# Altium footprint library Connector_Audio.PcbLib: 212 footprints (part 11 of 14)
Each footprint in its own frame and in the unit in brackets; x right, y up, seen from the top. Pads: shape width x height; smd on the part's side, far side on the other; paste and mask are expansions set on the pad; w line width, h text height; cw(c..) or ccw(c..) is an arc to the next point about the centre after c.
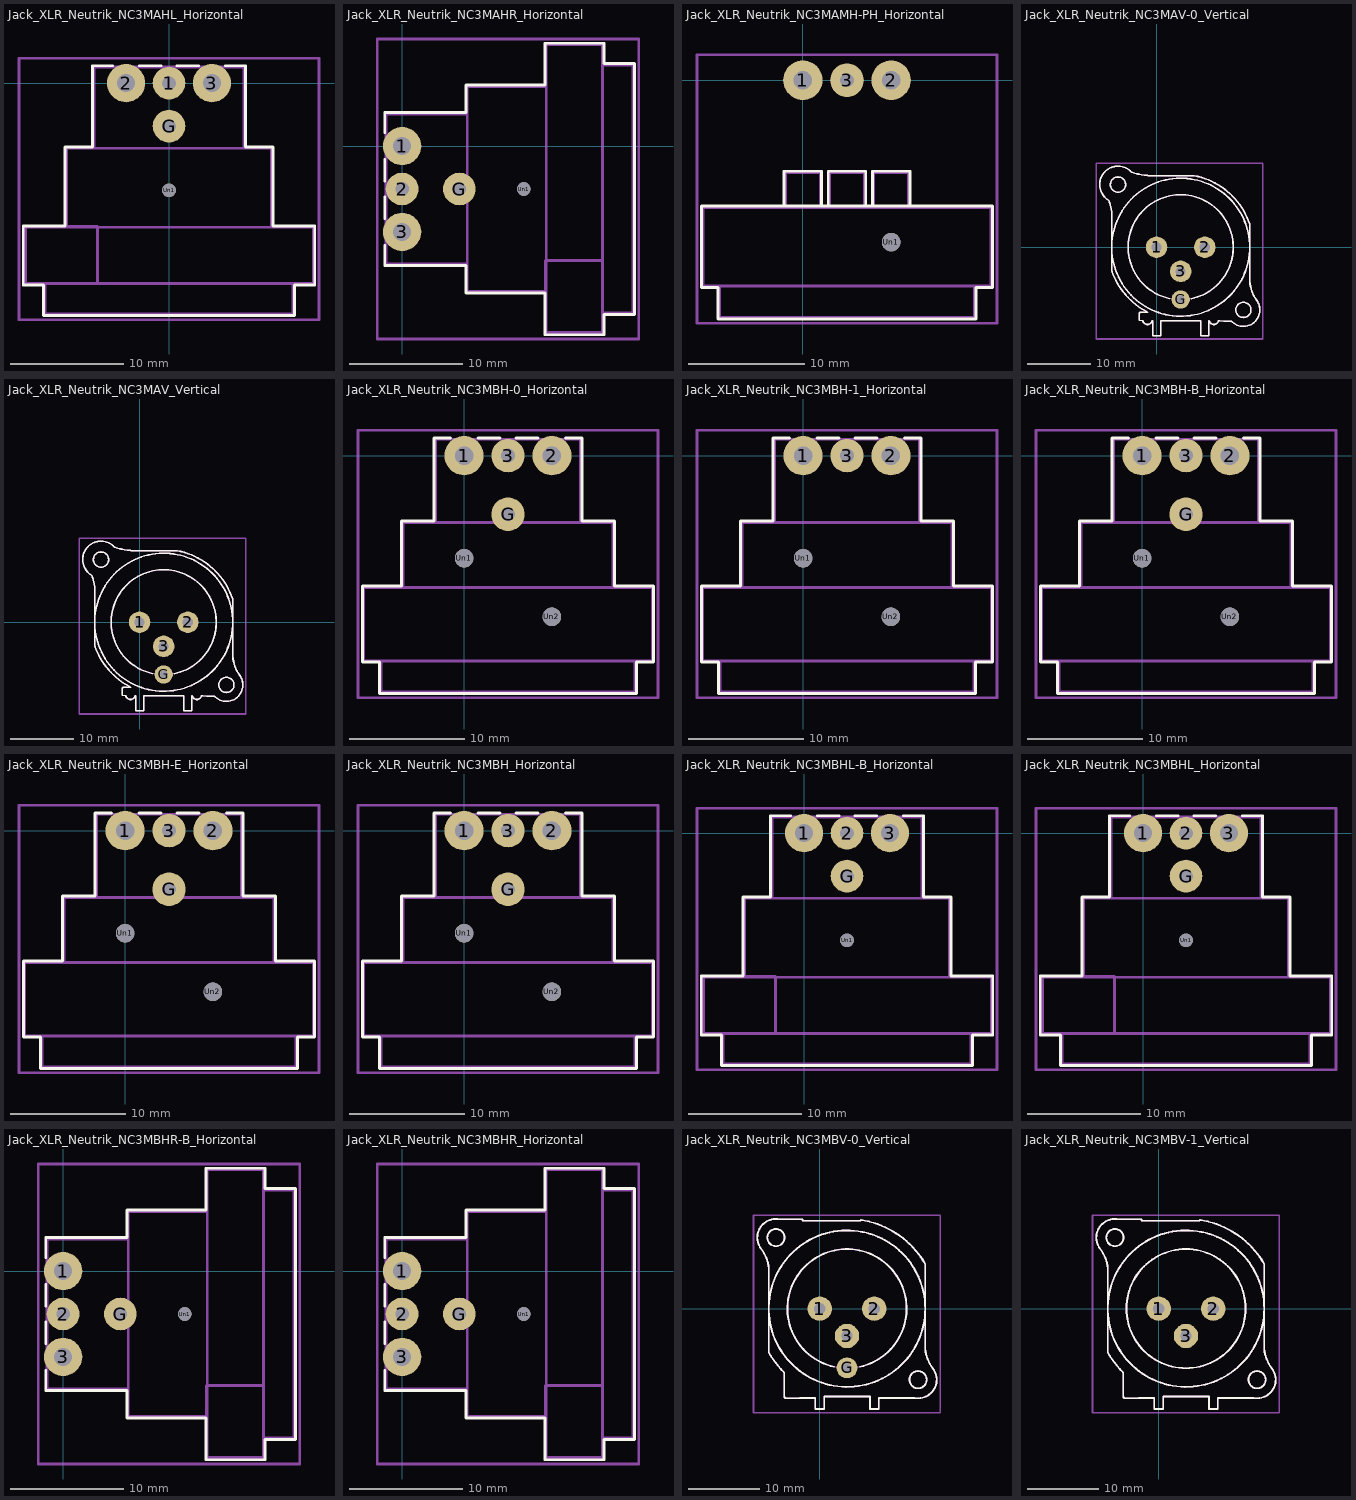
[diagram p10: the footprints below, top view; thin cyan lines are the x and y axes]

## Jack_XLR_Neutrik_NC3MAHL_Horizontal [mm]
pads (5):
  round 2.9 hole 1.2: 1(0,0) G(0,-3.81)
  round 3.4 hole 1.6: 2(-3.81,0) 3(3.81,0)
  round 1.2 hole 1.2: Un1(0,-9.52)
F.SilkS:
  lines w0.254: -5,1.54 -6.77,1.54 -6.77,-5.66 -9.22,-5.66 -9.22,-12.66 -12.92,-12.66 -12.92,-17.9 -11.12,-17.9 -11.12,-20.6 11.12,-20.6 11.12,-17.9 12.92,-17.9 12.92,-12.66 9.22,-12.66 9.22,-5.66 6.77,-5.66 6.77,1.54 5,1.54 ; -2.6,1.54 -0.7,1.54 -2.6,1.54 ; 0.7,1.54 2.6,1.54 0.7,1.54
Top Assembly:
  lines w0.254: -11,-17.78 -11,-20.48 11,-20.48 11,-17.78 ; -9.1,-12.78 -9.1,-5.78 9.1,-5.78 9.1,-12.78 ; -6.65,-5.78 -6.65,1.42 6.65,1.42 6.65,-5.78 ; -12.8,-17.78 12.8,-17.78 12.8,-12.78 -12.8,-12.78 -12.8,-17.78
  text "'.Designator'" at -4.047,-16.27 h1
Top Courtyard:
  lines w0.254: -13.3,-20.98 13.3,-20.98 13.3,2.2 -13.3,2.2 -13.3,-20.98
Top Designator:
  text ".Designator" at -7.618,-9.898 h1.52
Board Shape:
  lines w0.254: -12.8,-17.78 12.8,-17.78 ; -12.7,-17.78 -12.7,-12.7 -6.35,-12.7 -6.35,-17.78

## Jack_XLR_Neutrik_NC3MAHR_Horizontal [mm]
pads (5):
  round 3.4 hole 1.6: 1(0,0) 3(0,-7.62)
  round 2.9 hole 1.2: 2(0,-3.81) G(5.08,-3.81)
  round 1.2 hole 1.2: Un1(10.78,-3.81)
F.SilkS:
  lines w0.254: -1.54,-8.81 -1.54,-10.58 5.66,-10.58 5.66,-13.03 12.66,-13.03 12.66,-16.73 17.9,-16.73 17.9,-14.93 20.6,-14.93 20.6,7.31 17.9,7.31 17.9,9.11 12.66,9.11 12.66,5.41 5.66,5.41 5.66,2.96 -1.54,2.96 -1.54,1.19 ; -1.54,-6.41 -1.54,-4.51 ; -1.54,-3.11 -1.54,-1.21
Top Assembly:
  lines w0.254: 5.78,-10.46 -1.42,-10.46 -1.42,2.84 5.78,2.84 ; 12.78,-12.91 5.78,-12.91 5.78,5.29 12.78,5.29 ; 17.78,-14.81 20.48,-14.81 20.48,7.19 17.78,7.19 ; 12.78,-16.61 17.78,-16.61 17.78,8.99 12.78,8.99 12.78,-16.61
  text "'.Designator'" at 11.383,-4.65 h1
Top Courtyard:
  lines w0.254: -2.2,-17.11 20.98,-17.11 20.98,9.49 -2.2,9.49 -2.2,-17.11
Top Designator:
  text ".Designator" at 1.772,-4.318 h1.52
Board Shape:
  lines w0.254: 17.78,-16.61 17.78,8.99 ; 17.78,-16.51 12.7,-16.51 12.7,-10.16 17.78,-10.16

## Jack_XLR_Neutrik_NC3MAMH-PH_Horizontal [mm]
pads (4):
  round 3.4 hole 1.6: 1(0,0) 2(7.62,0)
  round 2.9 hole 1.2: 3(3.81,0)
  round 1.6 hole 1.6: Un1(7.62,-13.97)
F.SilkS:
  lines w0.254: -1.62,-10.86 -1.62,-7.86 1.62,-7.86 1.62,-10.86 ; 2.19,-10.86 2.19,-7.86 5.43,-7.86 5.43,-10.86 ; 6,-10.86 6,-7.86 9.24,-7.86 9.24,-10.86 ; -8.76,-17.9 -7.31,-17.9 -7.31,-20.6 14.93,-20.6 14.93,-17.9 16.38,-17.9 16.38,-10.86 -8.76,-10.86 -8.76,-17.9
Top Assembly:
  lines w0.254: -7.19,-17.78 -7.19,-20.48 14.81,-20.48 14.81,-17.78 ; -1.5,-10.98 -1.5,-7.98 1.5,-7.98 1.5,-10.98 ; 2.31,-10.98 2.31,-7.98 5.31,-7.98 5.31,-10.98 ; 6.12,-10.98 6.12,-7.98 9.12,-7.98 9.12,-10.98 ; -8.64,-17.78 16.26,-17.78 16.26,-10.98 -8.64,-10.98 -8.64,-17.78
  text "'.Designator'" at -0.237,-15.22 h1
Top Courtyard:
  lines w0.254: -9.14,-20.98 16.76,-20.98 16.76,2.2 -9.14,2.2 -9.14,-20.98
Top Designator:
  text ".Designator" at -3.808,-9.898 h1.52
Dwgs.User:
  lines w0.254: -8.64,-17.78 16.26,-17.78

## Jack_XLR_Neutrik_NC3MAV-0_Vertical [mm]
pads (4):
  round 3.4 hole 1.6: 1(0,0) 2(7.62,0) 3(3.81,-3.81)
  round 2.9 hole 1.2: G(3.81,-8.25)
F.SilkS:
  circle w0.254: c13.71,-9.9 r1.2
  circle w0.254: c3.81,0 r10.9
  circle w0.254: c-6.09,9.9 r1.2
  lines w0.254: -7.593,7.417 cw(c-6.09,9.9) -3.94,11.85 ccw(c-0.53,22.1) -0.36,11.3 5.95,11.3 ; -7.586,7.413 cw(c-12.1,5.24) -7.09,5.24 -7.09,-3.67 ccw(c3.81,0) -1.41,-10.248 ; -1.41,-10.25 -2.44,-10.25 ccw(c-2.44,-10.55) -2.74,-10.55 -2.74,-11.53 -2.18,-11.6 ccw(c-1.44,-11.46) -0.7,-11.6 -0.63,-11.6 -0.63,-14 0.63,-14 0.63,-11.6 3.76,-11.6 5,-11.64 7,-11.64 7,-14 8.24,-14 8.24,-11.64 8.33,-11.64 ccw(c9.06,-11.46) 9.79,-11.641 ; 2.1,-8.12 cw(c3.81,0) 5.508,-8.123 ; 5.963,11.298 cw(c3.81,0) 14.71,3.67 14.71,-4.95 ccw(c20.56,-4.95) 15.815,-8.372 ; 9.79,-11.64 9.96,-11.64 10.66,-11.67 11.8,-11.67 ccw(c13.71,-9.9) 15.819,-8.372
Top Assembly:
  circle w0.254: c13.71,-9.9 r1.2
  circle w0.254: c3.81,0 r10.9
  circle w0.254: c3.81,0 r8.3
  circle w0.254: c-6.09,9.9 r1.2
  lines w0.254: -7.593,7.417 cw(c-6.09,9.9) -3.94,11.85 ccw(c-0.53,22.1) -0.36,11.3 5.95,11.3 ; -7.586,7.413 cw(c-12.1,5.24) -7.09,5.24 -7.09,-3.67 ccw(c3.81,0) -1.41,-10.248 ; -1.41,-10.25 -2.44,-10.25 ccw(c-2.44,-10.55) -2.74,-10.55 -2.74,-11.53 -2.18,-11.6 ccw(c-1.44,-11.46) -0.7,-11.6 -0.63,-11.6 -0.63,-14 0.63,-14 0.63,-11.6 3.76,-11.6 5,-11.64 7,-11.64 7,-14 8.24,-14 8.24,-11.64 8.33,-11.64 ccw(c9.06,-11.46) 9.79,-11.641 ; 5.963,11.298 cw(c3.81,0) 14.71,3.67 14.71,-4.95 ccw(c20.56,-4.95) 15.815,-8.372 ; 9.79,-11.64 9.96,-11.64 10.66,-11.67 11.8,-11.67 ccw(c13.71,-9.9) 15.819,-8.372
  text "'.Designator'" at -0.237,0.16 h1
Top Courtyard:
  lines w0.254: -9.5,-14.5 16.8,-14.5 16.8,13.3 -9.5,13.3 -9.5,-14.5
Top Designator:
  text ".Designator" at -3.968,-1.108 h1.52

## Jack_XLR_Neutrik_NC3MAV_Vertical [mm]
pads (4):
  round 3.4 hole 1.6: 1(0,0) 2(7.62,0) 3(3.81,-3.81)
  round 2.9 hole 1.2: G(3.81,-8.25)
F.SilkS:
  circle w0.254: c13.71,-9.9 r1.2
  circle w0.254: c3.81,0 r10.9
  circle w0.254: c-6.09,9.9 r1.2
  lines w0.254: -7.593,7.417 cw(c-6.09,9.9) -3.94,11.85 ccw(c-0.53,22.1) -0.36,11.3 5.95,11.3 ; -7.586,7.413 cw(c-12.1,5.24) -7.09,5.24 -7.09,-3.67 ccw(c3.81,0) -1.41,-10.248 ; -1.41,-10.25 -2.44,-10.25 ccw(c-2.44,-10.55) -2.74,-10.55 -2.74,-11.53 -2.18,-11.6 ccw(c-1.44,-11.46) -0.7,-11.6 -0.63,-11.6 -0.63,-14 0.63,-14 0.63,-11.6 3.76,-11.6 5,-11.64 7,-11.64 7,-14 8.24,-14 8.24,-11.64 8.33,-11.64 ccw(c9.06,-11.46) 9.79,-11.641 ; 2.1,-8.12 cw(c3.81,0) 5.508,-8.123 ; 5.963,11.298 cw(c3.81,0) 14.71,3.67 14.71,-4.95 ccw(c20.56,-4.95) 15.815,-8.372 ; 9.79,-11.64 9.96,-11.64 10.66,-11.67 11.8,-11.67 ccw(c13.71,-9.9) 15.819,-8.372
Top Assembly:
  circle w0.254: c13.71,-9.9 r1.2
  circle w0.254: c3.81,0 r10.9
  circle w0.254: c3.81,0 r8.3
  circle w0.254: c-6.09,9.9 r1.2
  lines w0.254: -7.593,7.417 cw(c-6.09,9.9) -3.94,11.85 ccw(c-0.53,22.1) -0.36,11.3 5.95,11.3 ; -7.586,7.413 cw(c-12.1,5.24) -7.09,5.24 -7.09,-3.67 ccw(c3.81,0) -1.41,-10.248 ; -1.41,-10.25 -2.44,-10.25 ccw(c-2.44,-10.55) -2.74,-10.55 -2.74,-11.53 -2.18,-11.6 ccw(c-1.44,-11.46) -0.7,-11.6 -0.63,-11.6 -0.63,-14 0.63,-14 0.63,-11.6 3.76,-11.6 5,-11.64 7,-11.64 7,-14 8.24,-14 8.24,-11.64 8.33,-11.64 ccw(c9.06,-11.46) 9.79,-11.641 ; 5.963,11.298 cw(c3.81,0) 14.71,3.67 14.71,-4.95 ccw(c20.56,-4.95) 15.815,-8.372 ; 9.79,-11.64 9.96,-11.64 10.66,-11.67 11.8,-11.67 ccw(c13.71,-9.9) 15.819,-8.372
  text "'.Designator'" at -0.237,0.16 h1
Top Courtyard:
  lines w0.254: -9.5,-14.5 16.8,-14.5 16.8,13.3 -9.5,13.3 -9.5,-14.5
Top Designator:
  text ".Designator" at -3.968,-1.108 h1.52

## Jack_XLR_Neutrik_NC3MBH-0_Horizontal [mm]
pads (6):
  round 3.4 hole 1.6: 1(0,0) 2(7.62,0)
  round 2.9 hole 1.2: 3(3.81,0) G(3.81,-5.08)
  round 1.6 hole 1.6: Un1(0,-8.89) Un2(7.62,-13.97)
F.SilkS:
  lines w0.254: -1.19,1.54 -2.61,1.54 -2.61,-5.66 -5.41,-5.66 -5.41,-11.31 -8.81,-11.31 -8.81,-17.9 -7.31,-17.9 -7.31,-20.6 14.93,-20.6 14.93,-17.9 16.43,-17.9 16.43,-11.31 13.03,-11.31 13.03,-5.66 10.23,-5.66 10.23,1.54 8.81,1.54 ; 1.21,1.54 3.11,1.54 ; 4.51,1.54 6.41,1.54
Top Assembly:
  lines w0.254: -7.19,-17.78 -7.19,-20.48 14.81,-20.48 14.81,-17.78 ; -5.29,-11.43 -5.29,-5.78 12.91,-5.78 12.91,-11.43 ; -2.49,-5.78 -2.49,1.42 10.11,1.42 10.11,-5.78 ; -8.69,-17.78 16.31,-17.78 16.31,-11.43 -8.69,-11.43 -8.69,-17.78
  text "'.Designator'" at -0.237,-16.27 h1
Top Courtyard:
  lines w0.254: -9.19,-20.98 16.81,-20.98 16.81,2.2 -9.19,2.2 -9.19,-20.98
Top Designator:
  text ".Designator" at -3.808,-9.898 h1.52
Dwgs.User:
  lines w0.254: -8.69,-17.78 16.31,-17.78

## Jack_XLR_Neutrik_NC3MBH-1_Horizontal [mm]
pads (5):
  round 3.4 hole 1.6: 1(0,0) 2(7.62,0)
  round 2.9 hole 1.2: 3(3.81,0)
  round 1.6 hole 1.6: Un1(0,-8.89) Un2(7.62,-13.97)
F.SilkS:
  lines w0.254: -1.19,1.54 -2.61,1.54 -2.61,-5.66 -5.41,-5.66 -5.41,-11.31 -8.81,-11.31 -8.81,-17.9 -7.31,-17.9 -7.31,-20.6 14.93,-20.6 14.93,-17.9 16.43,-17.9 16.43,-11.31 13.03,-11.31 13.03,-5.66 10.23,-5.66 10.23,1.54 8.81,1.54 ; 1.21,1.54 3.11,1.54 ; 4.51,1.54 6.41,1.54
Top Assembly:
  lines w0.254: -7.19,-17.78 -7.19,-20.48 14.81,-20.48 14.81,-17.78 ; -5.29,-11.43 -5.29,-5.78 12.91,-5.78 12.91,-11.43 ; -2.49,-5.78 -2.49,1.42 10.11,1.42 10.11,-5.78 ; -8.69,-17.78 16.31,-17.78 16.31,-11.43 -8.69,-11.43 -8.69,-17.78
  text "'.Designator'" at -0.237,-16.27 h1
Top Courtyard:
  lines w0.254: -9.19,-20.98 16.81,-20.98 16.81,2.2 -9.19,2.2 -9.19,-20.98
Top Designator:
  text ".Designator" at -3.808,-9.898 h1.52
Dwgs.User:
  lines w0.254: -8.69,-17.78 16.31,-17.78

## Jack_XLR_Neutrik_NC3MBH-B_Horizontal [mm]
pads (6):
  round 3.4 hole 1.6: 1(0,0) 2(7.62,0)
  round 2.9 hole 1.2: 3(3.81,0) G(3.81,-5.08)
  round 1.6 hole 1.6: Un1(0,-8.89) Un2(7.62,-13.97)
F.SilkS:
  lines w0.254: -1.19,1.54 -2.61,1.54 -2.61,-5.66 -5.41,-5.66 -5.41,-11.31 -8.81,-11.31 -8.81,-17.9 -7.31,-17.9 -7.31,-20.6 14.93,-20.6 14.93,-17.9 16.43,-17.9 16.43,-11.31 13.03,-11.31 13.03,-5.66 10.23,-5.66 10.23,1.54 8.81,1.54 ; 1.21,1.54 3.11,1.54 ; 4.51,1.54 6.41,1.54
Top Assembly:
  lines w0.254: -7.19,-17.78 -7.19,-20.48 14.81,-20.48 14.81,-17.78 ; -5.29,-11.43 -5.29,-5.78 12.91,-5.78 12.91,-11.43 ; -2.49,-5.78 -2.49,1.42 10.11,1.42 10.11,-5.78 ; -8.69,-17.78 16.31,-17.78 16.31,-11.43 -8.69,-11.43 -8.69,-17.78
  text "'.Designator'" at -0.237,-16.27 h1
Top Courtyard:
  lines w0.254: -9.19,-20.98 16.81,-20.98 16.81,2.2 -9.19,2.2 -9.19,-20.98
Top Designator:
  text ".Designator" at -3.808,-9.898 h1.52
Dwgs.User:
  lines w0.254: -8.69,-17.78 16.31,-17.78

## Jack_XLR_Neutrik_NC3MBH-E_Horizontal [mm]
pads (6):
  round 3.4 hole 1.6: 1(0,0) 2(7.62,0)
  round 2.9 hole 1.2: 3(3.81,0) G(3.81,-5.08)
  round 1.6 hole 1.6: Un1(0,-8.89) Un2(7.62,-13.97)
F.SilkS:
  lines w0.254: -1.19,1.54 -2.61,1.54 -2.61,-5.66 -5.41,-5.66 -5.41,-11.31 -8.81,-11.31 -8.81,-17.9 -7.31,-17.9 -7.31,-20.6 14.93,-20.6 14.93,-17.9 16.43,-17.9 16.43,-11.31 13.03,-11.31 13.03,-5.66 10.23,-5.66 10.23,1.54 8.81,1.54 ; 1.21,1.54 3.11,1.54 ; 4.51,1.54 6.41,1.54
Top Assembly:
  lines w0.254: -8.69,-11.43 16.31,-11.43 16.31,-17.78 -8.69,-17.78 -8.69,-11.4 ; -7.19,-17.78 -7.19,-20.48 14.81,-20.48 14.81,-17.78 ; -5.29,-11.43 -5.29,-5.78 12.91,-5.78 12.91,-11.43 ; -2.49,-5.78 -2.49,1.42 10.11,1.42 10.11,-5.78
  text "'.Designator'" at -0.237,-16.27 h1
Top Courtyard:
  lines w0.254: -9.19,-20.98 16.81,-20.98 16.81,2.2 -9.19,2.2 -9.19,-20.98
Top Designator:
  text ".Designator" at -3.808,-9.898 h1.52
Dwgs.User:
  lines w0.254: -8.69,-17.78 16.31,-17.78

## Jack_XLR_Neutrik_NC3MBH_Horizontal [mm]
pads (6):
  round 3.4 hole 1.6: 1(0,0) 2(7.62,0)
  round 2.9 hole 1.2: 3(3.81,0) G(3.81,-5.08)
  round 1.6 hole 1.6: Un1(0,-8.89) Un2(7.62,-13.97)
F.SilkS:
  lines w0.254: -1.19,1.54 -2.61,1.54 -2.61,-5.66 -5.41,-5.66 -5.41,-11.31 -8.81,-11.31 -8.81,-17.9 -7.31,-17.9 -7.31,-20.6 14.93,-20.6 14.93,-17.9 16.43,-17.9 16.43,-11.31 13.03,-11.31 13.03,-5.66 10.23,-5.66 10.23,1.54 8.81,1.54 ; 1.21,1.54 3.11,1.54 ; 4.51,1.54 6.41,1.54
Top Assembly:
  lines w0.254: -7.19,-17.78 -7.19,-20.48 14.81,-20.48 14.81,-17.78 ; -5.29,-11.43 -5.29,-5.78 12.91,-5.78 12.91,-11.43 ; -2.49,-5.78 -2.49,1.42 10.11,1.42 10.11,-5.78 ; -8.69,-17.78 16.31,-17.78 16.31,-11.43 -8.69,-11.43 -8.69,-17.78
  text "'.Designator'" at -0.237,-16.27 h1
Top Courtyard:
  lines w0.254: -9.19,-20.98 16.81,-20.98 16.81,2.2 -9.19,2.2 -9.19,-20.98
Top Designator:
  text ".Designator" at -3.808,-9.898 h1.52
Dwgs.User:
  lines w0.254: -8.69,-17.78 16.31,-17.78

## Jack_XLR_Neutrik_NC3MBHL-B_Horizontal [mm]
pads (5):
  round 3.4 hole 1.6: 1(0,0) 3(7.62,0)
  round 2.9 hole 1.2: 2(3.81,0) G(3.81,-3.81)
  round 1.2 hole 1.2: Un1(3.81,-9.52)
F.SilkS:
  lines w0.254: -1.19,1.54 -2.96,1.54 -2.96,-5.66 -5.41,-5.66 -5.41,-12.66 -9.11,-12.66 -9.11,-17.9 -7.31,-17.9 -7.31,-20.6 14.93,-20.6 14.93,-17.9 16.73,-17.9 16.73,-12.66 13.03,-12.66 13.03,-5.66 10.58,-5.66 10.58,1.54 8.81,1.54 ; 1.21,1.54 3.11,1.54 1.21,1.54 ; 4.51,1.54 6.41,1.54 4.51,1.54
Top Assembly:
  lines w0.254: -7.19,-17.78 -7.19,-20.48 14.81,-20.48 14.81,-17.78 ; -5.29,-12.78 -5.29,-5.78 12.91,-5.78 12.91,-12.78 ; -2.84,-5.78 -2.84,1.42 10.46,1.42 10.46,-5.78 ; -8.99,-17.78 16.61,-17.78 16.61,-12.78 -8.99,-12.78 -8.99,-17.78
  text "'.Designator'" at -0.237,-16.27 h1
Top Courtyard:
  lines w0.254: -9.49,-20.98 17.11,-20.98 17.11,2.2 -9.49,2.2 -9.49,-20.98
Top Designator:
  text ".Designator" at -3.808,-9.898 h1.52
Board Shape:
  lines w0.254: -8.99,-17.78 16.61,-17.78 ; -8.89,-17.78 -8.89,-12.7 -2.54,-12.7 -2.54,-17.78

## Jack_XLR_Neutrik_NC3MBHL_Horizontal [mm]
pads (5):
  round 3.4 hole 1.6: 1(0,0) 3(7.62,0)
  round 2.9 hole 1.2: 2(3.81,0) G(3.81,-3.81)
  round 1.2 hole 1.2: Un1(3.81,-9.52)
F.SilkS:
  lines w0.254: -1.19,1.54 -2.96,1.54 -2.96,-5.66 -5.41,-5.66 -5.41,-12.66 -9.11,-12.66 -9.11,-17.9 -7.31,-17.9 -7.31,-20.6 14.93,-20.6 14.93,-17.9 16.73,-17.9 16.73,-12.66 13.03,-12.66 13.03,-5.66 10.58,-5.66 10.58,1.54 8.81,1.54 ; 1.21,1.54 3.11,1.54 ; 4.51,1.54 6.41,1.54
Top Assembly:
  lines w0.254: -7.19,-17.78 -7.19,-20.48 14.81,-20.48 14.81,-17.78 ; -5.29,-12.78 -5.29,-5.78 12.91,-5.78 12.91,-12.78 ; -2.84,-5.78 -2.84,1.42 10.46,1.42 10.46,-5.78 ; -8.99,-17.78 16.61,-17.78 16.61,-12.78 -8.99,-12.78 -8.99,-17.78
  text "'.Designator'" at -0.237,-16.27 h1
Top Courtyard:
  lines w0.254: -9.49,-20.98 17.11,-20.98 17.11,2.2 -9.49,2.2 -9.49,-20.98
Top Designator:
  text ".Designator" at -3.808,-9.898 h1.52
Board Shape:
  lines w0.254: -8.99,-17.78 16.61,-17.78 ; -8.89,-17.78 -8.89,-12.7 -2.54,-12.7 -2.54,-17.78

## Jack_XLR_Neutrik_NC3MBHR-B_Horizontal [mm]
pads (5):
  round 3.4 hole 1.6: 1(0,0) 3(0,-7.62)
  round 2.9 hole 1.2: 2(0,-3.81) G(5.08,-3.81)
  round 1.2 hole 1.2: Un1(10.78,-3.81)
F.SilkS:
  lines w0.254: -1.54,-8.81 -1.54,-10.58 5.66,-10.58 5.66,-13.03 12.66,-13.03 12.66,-16.73 17.9,-16.73 17.9,-14.93 20.6,-14.93 20.6,7.31 17.9,7.31 17.9,9.11 12.66,9.11 12.66,5.41 5.66,5.41 5.66,2.96 -1.54,2.96 -1.54,1.19 ; -1.54,-6.41 -1.54,-4.51 ; -1.54,-3.11 -1.54,-1.21
Top Assembly:
  lines w0.254: 5.78,-10.46 -1.42,-10.46 -1.42,2.84 5.78,2.84 ; 12.78,-12.91 5.78,-12.91 5.78,5.29 12.78,5.29 ; 17.78,-14.81 20.48,-14.81 20.48,7.19 17.78,7.19 ; 12.78,-16.61 17.78,-16.61 17.78,8.99 12.78,8.99 12.78,-16.61
  text "'.Designator'" at 11.383,-4.65 h1
Top Courtyard:
  lines w0.254: -2.2,-17.11 20.98,-17.11 20.98,9.49 -2.2,9.49 -2.2,-17.11
Top Designator:
  text ".Designator" at 1.772,-4.318 h1.52
Board Shape:
  lines w0.254: 17.78,-16.61 17.78,8.99 ; 17.78,-16.51 12.7,-16.51 12.7,-10.16 17.78,-10.16

## Jack_XLR_Neutrik_NC3MBHR_Horizontal [mm]
pads (5):
  round 3.4 hole 1.6: 1(0,0) 3(0,-7.62)
  round 2.9 hole 1.2: 2(0,-3.81) G(5.08,-3.81)
  round 1.2 hole 1.2: Un1(10.78,-3.81)
F.SilkS:
  lines w0.254: -1.54,-8.81 -1.54,-10.58 5.66,-10.58 5.66,-13.03 12.66,-13.03 12.66,-16.73 17.9,-16.73 17.9,-14.93 20.6,-14.93 20.6,7.31 17.9,7.31 17.9,9.11 12.66,9.11 12.66,5.41 5.66,5.41 5.66,2.96 -1.54,2.96 -1.54,1.19 ; -1.54,-6.41 -1.54,-4.51 ; -1.54,-3.11 -1.54,-1.21
Top Assembly:
  lines w0.254: 5.78,-10.46 -1.42,-10.46 -1.42,2.84 5.78,2.84 ; 12.78,-12.91 5.78,-12.91 5.78,5.29 12.78,5.29 ; 17.78,-14.81 20.48,-14.81 20.48,7.19 17.78,7.19 ; 12.78,-16.61 17.78,-16.61 17.78,8.99 12.78,8.99 12.78,-16.61
  text "'.Designator'" at 11.383,-4.65 h1
Top Courtyard:
  lines w0.254: -2.2,-17.11 20.98,-17.11 20.98,9.49 -2.2,9.49 -2.2,-17.11
Top Designator:
  text ".Designator" at 1.772,-4.318 h1.52
Board Shape:
  lines w0.254: 17.78,-16.61 17.78,8.99 ; 17.78,-16.51 12.7,-16.51 12.7,-10.16 17.78,-10.16

## Jack_XLR_Neutrik_NC3MBV-0_Vertical [mm]
pads (4):
  round 3.4 hole 1.6: 1(0,0) 2(7.62,0) 3(3.81,-3.81)
  round 2.9 hole 1.2: G(3.81,-8.25)
F.SilkS:
  circle w0.254: c13.71,-9.9 r1.2
  circle w0.254: c3.81,0 r10.9
  circle w0.254: c-6.09,9.9 r1.2
  lines w0.254: -8.145,8.311 cw(c-12.09,5.24) -7.09,5.24 -7.09,-6.11 ccw(c3.77,0.06) -5,-8.834 ; -8.141,8.308 cw(c-6.09,9.9) -5.6,12.45 -2.43,12.45 -2.32,12.25 5.68,12.25 5.74,12.35 ; -5,-8.832 cw(c-5.14,-8.975) -4.94,-8.98 -4.94,-12.2 ccw(c-4.64,-12.2) -4.64,-12.5 -2.74,-12.5 -2.74,-12.45 -0.62,-12.45 -0.62,-14 0.63,-14 0.63,-12.25 7,-12.25 7,-14 8.24,-14 8.24,-12.45 13.22,-12.45 ccw(c13.71,-9.9) 15.761,-8.308 ; 2,-8.1 cw(c3.81,0) 5.621,-8.1 ; 5.753,12.354 cw(c3.83,-0.06) 14.71,6.22 14.71,-5.24 ccw(c19.71,-5.24) 15.765,-8.311
Top Assembly:
  circle w0.254: c13.71,-9.9 r1.2
  circle w0.254: c3.81,0 r10.9
  circle w0.254: c3.81,0 r8.3
  circle w0.254: c-6.09,9.9 r1.2
  lines w0.254: -8.145,8.311 cw(c-12.09,5.24) -7.09,5.24 -7.09,-6.11 ccw(c3.77,0.06) -5,-8.834 ; -8.141,8.308 cw(c-6.09,9.9) -5.6,12.45 -2.43,12.45 -2.32,12.25 5.68,12.25 5.74,12.35 ; -5,-8.832 cw(c-5.14,-8.975) -4.94,-8.98 -4.94,-12.2 ccw(c-4.64,-12.2) -4.64,-12.5 -2.74,-12.5 -2.74,-12.45 -0.62,-12.45 -0.62,-14 0.63,-14 0.63,-12.25 7,-12.25 7,-14 8.24,-14 8.24,-12.45 13.22,-12.45 ccw(c13.71,-9.9) 15.761,-8.308 ; 5.753,12.354 cw(c3.83,-0.06) 14.71,6.22 14.71,-5.24 ccw(c19.71,-5.24) 15.765,-8.311
  text "'.Designator'" at -0.237,0.16 h1
Top Courtyard:
  lines w0.254: -9.2,-14.5 16.8,-14.5 16.8,13 -9.2,13 -9.2,-14.5
Top Designator:
  text ".Designator" at -3.818,-1.258 h1.52

## Jack_XLR_Neutrik_NC3MBV-1_Vertical [mm]
pads (3):
  round 3.4 hole 1.6: 1(0,0) 2(7.62,0) 3(3.81,-3.81)
F.SilkS:
  circle w0.254: c13.71,-9.9 r1.2
  circle w0.254: c3.81,0 r10.9
  circle w0.254: c3.81,0 r8.3
  circle w0.254: c-6.09,9.9 r1.2
  lines w0.254: -8.145,8.311 cw(c-12.09,5.24) -7.09,5.24 -7.09,-6.11 ccw(c3.77,0.06) -5,-8.834 ; -8.141,8.308 cw(c-6.09,9.9) -5.6,12.45 -2.43,12.45 -2.32,12.25 5.68,12.25 5.74,12.35 ; -5,-8.832 cw(c-5.14,-8.975) -4.94,-8.98 -4.94,-12.2 ccw(c-4.64,-12.2) -4.64,-12.5 -2.74,-12.5 -2.74,-12.45 -0.62,-12.45 -0.62,-14 0.63,-14 0.63,-12.25 7,-12.25 7,-14 8.24,-14 8.24,-12.45 13.22,-12.45 ccw(c13.71,-9.9) 15.761,-8.308 ; 5.753,12.354 cw(c3.83,-0.06) 14.71,6.22 14.71,-5.24 ccw(c19.71,-5.24) 15.765,-8.311
Top Assembly:
  circle w0.254: c13.71,-9.9 r1.2
  circle w0.254: c3.81,0 r10.9
  circle w0.254: c3.81,0 r8.3
  circle w0.254: c-6.09,9.9 r1.2
  lines w0.254: -8.145,8.311 cw(c-12.09,5.24) -7.09,5.24 -7.09,-6.11 ccw(c3.77,0.06) -5,-8.834 ; -8.141,8.308 cw(c-6.09,9.9) -5.6,12.45 -2.43,12.45 -2.32,12.25 5.68,12.25 5.74,12.35 ; -5,-8.832 cw(c-5.14,-8.975) -4.94,-8.98 -4.94,-12.2 ccw(c-4.64,-12.2) -4.64,-12.5 -2.74,-12.5 -2.74,-12.45 -0.62,-12.45 -0.62,-14 0.63,-14 0.63,-12.25 7,-12.25 7,-14 8.24,-14 8.24,-12.45 13.22,-12.45 ccw(c13.71,-9.9) 15.761,-8.308 ; 5.753,12.354 cw(c3.83,-0.06) 14.71,6.22 14.71,-5.24 ccw(c19.71,-5.24) 15.765,-8.311
  text "'.Designator'" at -0.237,0.16 h1
Top Courtyard:
  lines w0.254: -9.2,-14.5 16.8,-14.5 16.8,13 -9.2,13 -9.2,-14.5
Top Designator:
  text ".Designator" at -3.818,-1.258 h1.52